# Altium integrated library TI Data Converters Digital to Analog Converter.IntLib: 1533 symbols (part 78 of 99)
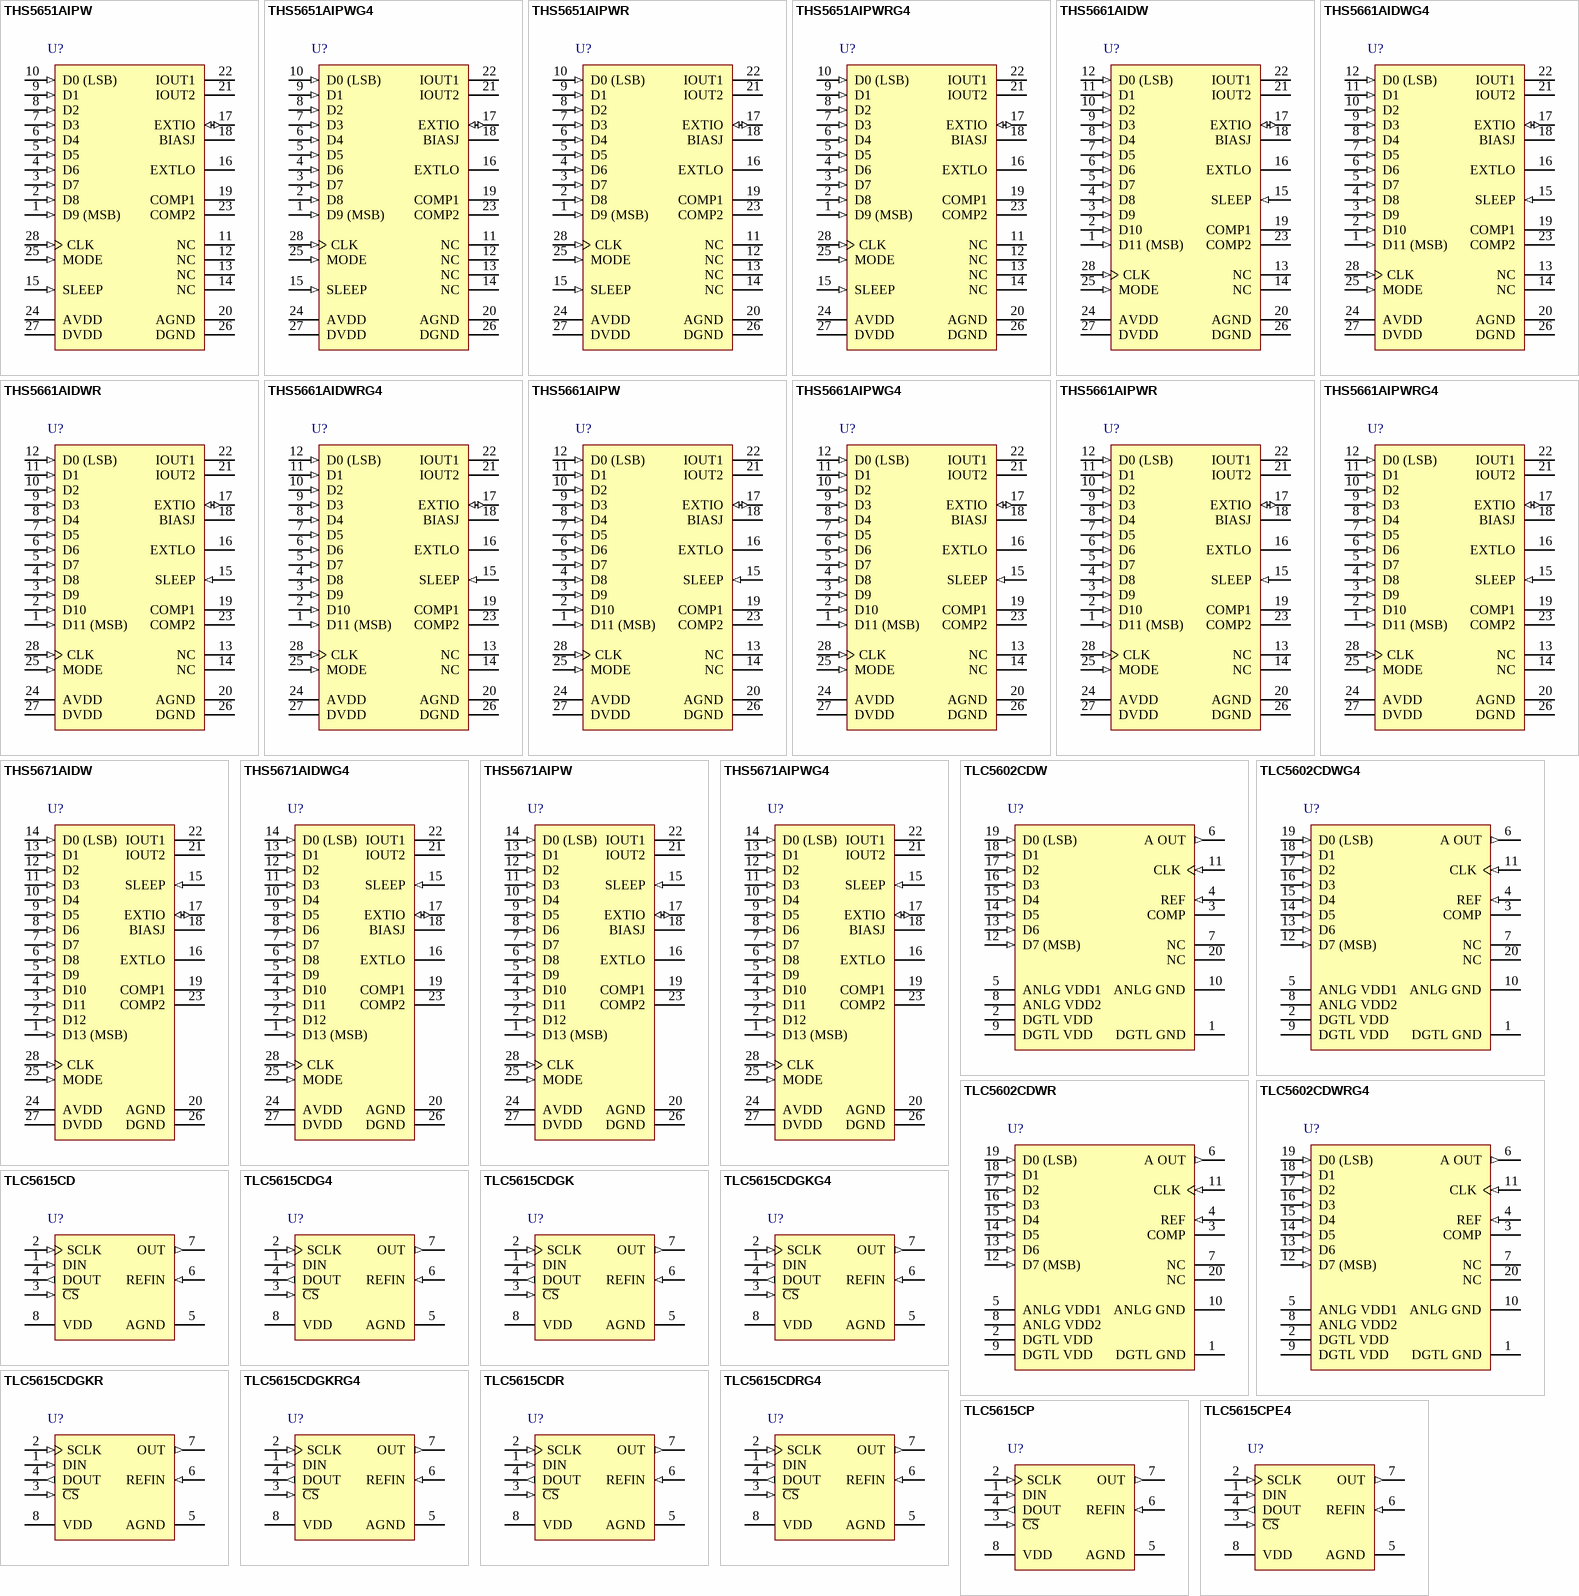
[diagram p150: symbols THS5651AIPW to TLC5615CPE4]

## TLC5615CDR
designator U?
10-Bit, 12.5 us DAC, Serial Input, Low Power, 0 to 70 degC, 8-pin SOIC (D8), Green (RoHS & no Sb/Br); Manufacturer: Texas Instruments; PartNumber: TLC5615CDR; DAC Channels: 1; DNL(Max)(+/-LSB): 0.5; Interface: Serial SPI; Power Consumption(Typ)(mW): 0.75; Resolution(Bits): 10; Settling Time(us): 12.5; SubFamily: Precision DAC (=<10MSPS); DatasheetVersion: SLAS142E; PackageVersion: 4040047-3/M, 06/2011; PackageReference: D8; PackageDescription: 8-Pin Plastic Small Outline, Body 4.9 x 3.9 mm, Pitch 1.27 mm; Supplier 1: Digi-Key; Supplier Part Number 1: TLC5615CDR-ND; Supplier 2: Mouser; Supplier Part Number 2: 595-TLC5615CDR; Eco-Plan: Green (RoHS & no Sb/Br); INL(Max)(+/-LSB): 1; Mounting Technology: Surface Mount; Code_JEDEC: MS-012; ComponentLink1Description: Manufacturer URL; ComponentLink1URL: http://www.ti.com/; ComponentLink2Description: Datasheet; ComponentLink2URL: http://www.ti.com/general/docs/lit/getliterature.tsp?genericPartNumber=TLC5615&fileType=pdf; ComponentLink3Description: Package Specification; ComponentLink3URL: http://www.ti.com/litv/pdf/msoi002j
footprint TI-D8_N (SOIC, 8-Leads, Body 4.9x3.9mm, Pitch 1.27mm, IPC Medium Density)
footprint TI-D8_L (SOIC, 8-Leads, Body 4.9x3.9mm, Pitch 1.27mm, IPC High Density)
footprint TI-D8_M (SOIC, 8-Leads, Body 4.9x3.9mm, Pitch 1.27mm, IPC Low Density)
pins: 1 DIN (in) "Serial data input", 2 SCLK (in) "Serial clock input", 3 ~{CS} (in) "Chip select, active low", 4 DOUT (out) "Serial data output for daisy chaining", 5 AGND (power) "Analog ground", 6 REFIN (in) "Reference input", 7 OUT (out) "DAC analog voltage output", 8 VDD (power) "Positive power supply"

## TLC5615CDRG4
designator U?
10-Bit, 12.5 us DAC, Serial Input, Low Power, 0 to 70 degC, 8-pin SOIC (D8), Green (RoHS & no Sb/Br); Manufacturer: Texas Instruments; PartNumber: TLC5615CDRG4; DAC Channels: 1; DNL(Max)(+/-LSB): 0.5; Interface: Serial SPI; Power Consumption(Typ)(mW): 0.75; Resolution(Bits): 10; Settling Time(us): 12.5; SubFamily: Precision DAC (=<10MSPS); DatasheetVersion: SLAS142E; PackageVersion: 4040047-3/M, 06/2011; PackageReference: D8; PackageDescription: 8-Pin Plastic Small Outline, Body 4.9 x 3.9 mm, Pitch 1.27 mm; Supplier 1: Digi-Key; Supplier Part Number 1: TLC5615CDRG4-ND; Supplier 2: Mouser; Supplier Part Number 2: 595-TLC5615CDRG4; Eco-Plan: Green (RoHS & no Sb/Br); INL(Max)(+/-LSB): 1; Mounting Technology: Surface Mount; Code_JEDEC: MS-012; ComponentLink1Description: Manufacturer URL; ComponentLink1URL: http://www.ti.com/; ComponentLink2Description: Datasheet; ComponentLink2URL: http://www.ti.com/general/docs/lit/getliterature.tsp?genericPartNumber=TLC5615&fileType=pdf; ComponentLink3Description: Package Specification; ComponentLink3URL: http://www.ti.com/litv/pdf/msoi002j
footprint TI-D8_N (SOIC, 8-Leads, Body 4.9x3.9mm, Pitch 1.27mm, IPC Medium Density)
footprint TI-D8_L (SOIC, 8-Leads, Body 4.9x3.9mm, Pitch 1.27mm, IPC High Density)
footprint TI-D8_M (SOIC, 8-Leads, Body 4.9x3.9mm, Pitch 1.27mm, IPC Low Density)
pins: 1 DIN (in) "Serial data input", 2 SCLK (in) "Serial clock input", 3 ~{CS} (in) "Chip select, active low", 4 DOUT (out) "Serial data output for daisy chaining", 5 AGND (power) "Analog ground", 6 REFIN (in) "Reference input", 7 OUT (out) "DAC analog voltage output", 8 VDD (power) "Positive power supply"

## TLC5615CP
designator U?
10-Bit, 12.5 us DAC, Serial Input, Low Power, 0 to 70 degC, 8-pin DIP (P8), Pb-Free (RoHS); Manufacturer: Texas Instruments; PartNumber: TLC5615CP; DAC Channels: 1; DNL(Max)(+/-LSB): 0.5; Interface: Serial SPI; Power Consumption(Typ)(mW): 0.75; Resolution(Bits): 10; Settling Time(us): 12.5; SubFamily: Precision DAC (=<10MSPS); DatasheetVersion: SLAS142E; PackageVersion: 4040082/E, 04/2010; PackageReference: P8; PackageDescription: 8-Pin Plastic In-Line, Body 9.59 x 6.35 mm, Pitch 2.54 mm; Supplier 1: Digi-Key; Supplier Part Number 1: 296-3006-5-ND; Supplier 2: Farnell; Supplier Part Number 2: 8454469; Supplier 3: Newark; Supplier Part Number 3: 35K1220; Supplier 4: Mouser; Supplier Part Number 4: 595-TLC5615CP; Eco-Plan: Pb-Free (RoHS); INL(Max)(+/-LSB): 1; Mounting Technology: Through Hole; Code_JEDEC: MS-001; ComponentLink1Description: Manufacturer URL; ComponentLink1URL: http://www.ti.com/; ComponentLink2Description: Datasheet; ComponentLink2URL: http://www.ti.com/general/docs/lit/getliterature.tsp?genericPartNumber=TLC5615&fileType=pdf; ComponentLink3Description: Package Specification; ComponentLink3URL: http://www.ti.com/litv/pdf/mpdi001b
footprint TI-P8 (DIP, 8-Leads, Body 9.59x6.35mm, Pitch 2.54mm)
pins: 1 DIN (in) "Serial data input", 2 SCLK (in) "Serial clock input", 3 ~{CS} (in) "Chip select, active low", 4 DOUT (out) "Serial data output for daisy chaining", 5 AGND (power) "Analog ground", 6 REFIN (in) "Reference input", 7 OUT (out) "DAC analog voltage output", 8 VDD (power) "Positive power supply"

## TLC5615CPE4
designator U?
10-Bit, 12.5 us DAC, Serial Input, Low Power, 0 to 70 degC, 8-pin DIP (P8), Pb-Free (RoHS); Manufacturer: Texas Instruments; PartNumber: TLC5615CPE4; DAC Channels: 1; DNL(Max)(+/-LSB): 0.5; Interface: Serial SPI; Power Consumption(Typ)(mW): 0.75; Resolution(Bits): 10; Settling Time(us): 12.5; SubFamily: Precision DAC (=<10MSPS); DatasheetVersion: SLAS142E; PackageVersion: 4040082/E, 04/2010; PackageReference: P8; PackageDescription: 8-Pin Plastic In-Line, Body 9.59 x 6.35 mm, Pitch 2.54 mm; Supplier 1: Digi-Key; Supplier Part Number 1: TLC5615CPE4-ND; Supplier 2: Newark; Supplier Part Number 2: 24K5335; Supplier 3: Mouser; Supplier Part Number 3: 595-TLC5615CPE4; Eco-Plan: Pb-Free (RoHS); INL(Max)(+/-LSB): 1; Mounting Technology: Through Hole; Code_JEDEC: MS-001; ComponentLink1Description: Manufacturer URL; ComponentLink1URL: http://www.ti.com/; ComponentLink2Description: Datasheet; ComponentLink2URL: http://www.ti.com/general/docs/lit/getliterature.tsp?genericPartNumber=TLC5615&fileType=pdf; ComponentLink3Description: Package Specification; ComponentLink3URL: http://www.ti.com/litv/pdf/mpdi001b
footprint TI-P8 (DIP, 8-Leads, Body 9.59x6.35mm, Pitch 2.54mm)
pins: 1 DIN (in) "Serial data input", 2 SCLK (in) "Serial clock input", 3 ~{CS} (in) "Chip select, active low", 4 DOUT (out) "Serial data output for daisy chaining", 5 AGND (power) "Analog ground", 6 REFIN (in) "Reference input", 7 OUT (out) "DAC analog voltage output", 8 VDD (power) "Positive power supply"

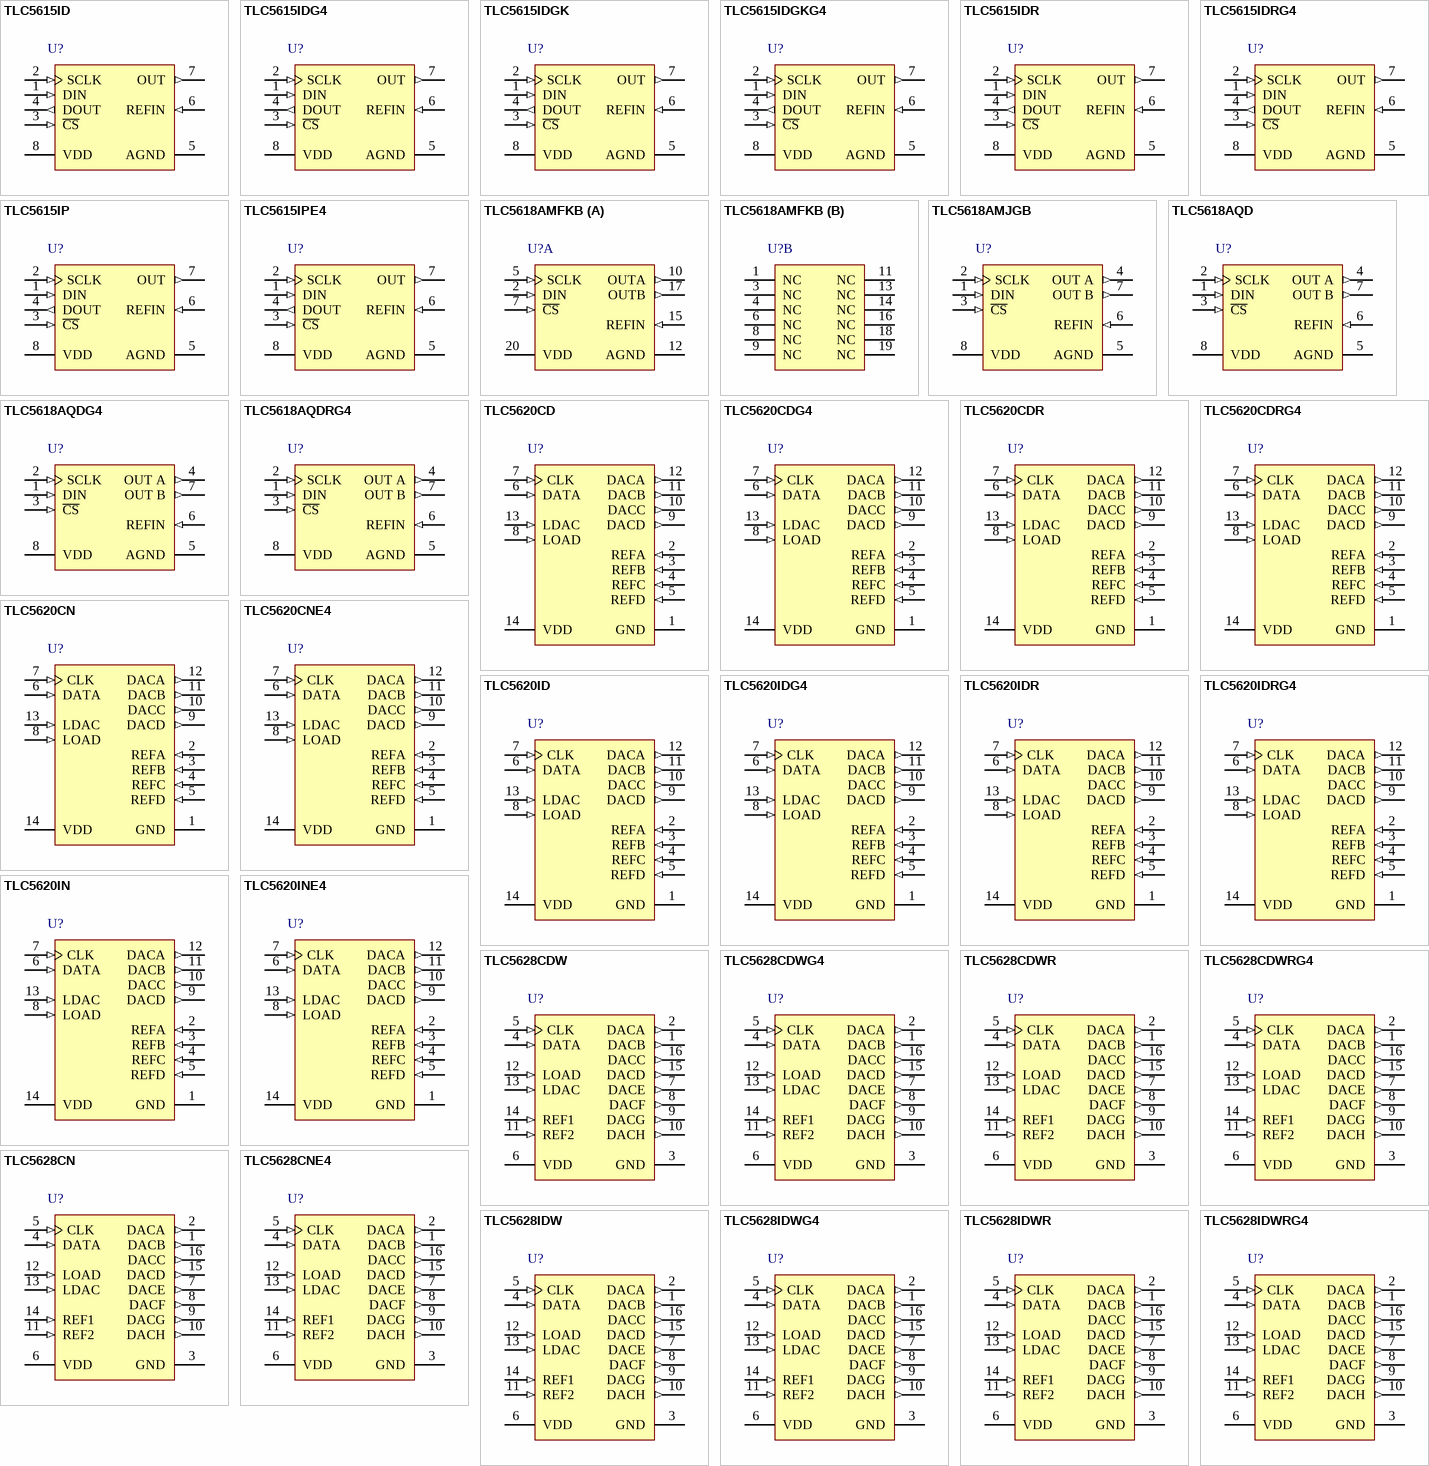
[diagram p58: symbols TLC5615ID to TLC5628IDWRG4]

## TLC5615ID
designator U?
10-Bit, 12.5 us DAC, Serial Input, Low Power, -40 to 85 degC, 8-pin SOIC (D8), Green (RoHS & no Sb/Br); Manufacturer: Texas Instruments; PartNumber: TLC5615ID; DAC Channels: 1; DNL(Max)(+/-LSB): 0.5; Interface: Serial SPI; Power Consumption(Typ)(mW): 0.75; Resolution(Bits): 10; Settling Time(us): 12.5; SubFamily: Precision DAC (=<10MSPS); DatasheetVersion: SLAS142E; PackageVersion: 4040047-3/M, 06/2011; PackageReference: D8; PackageDescription: 8-Pin Plastic Small Outline, Body 4.9 x 3.9 mm, Pitch 1.27 mm; Supplier 1: Digi-Key; Supplier Part Number 1: 296-3007-5-ND; Supplier 2: Newark; Supplier Part Number 2: 76C7465; Supplier 3: Mouser; Supplier Part Number 3: 595-TLC5615ID; Eco-Plan: Green (RoHS & no Sb/Br); INL(Max)(+/-LSB): 1; Mounting Technology: Surface Mount; Code_JEDEC: MS-012; ComponentLink1Description: Manufacturer URL; ComponentLink1URL: http://www.ti.com/; ComponentLink2Description: Datasheet; ComponentLink2URL: http://www.ti.com/general/docs/lit/getliterature.tsp?genericPartNumber=TLC5615&fileType=pdf; ComponentLink3Description: Package Specification; ComponentLink3URL: http://www.ti.com/litv/pdf/msoi002j
footprint TI-D8_N (SOIC, 8-Leads, Body 4.9x3.9mm, Pitch 1.27mm, IPC Medium Density)
footprint TI-D8_L (SOIC, 8-Leads, Body 4.9x3.9mm, Pitch 1.27mm, IPC High Density)
footprint TI-D8_M (SOIC, 8-Leads, Body 4.9x3.9mm, Pitch 1.27mm, IPC Low Density)
pins: 1 DIN (in) "Serial data input", 2 SCLK (in) "Serial clock input", 3 ~{CS} (in) "Chip select, active low", 4 DOUT (out) "Serial data output for daisy chaining", 5 AGND (power) "Analog ground", 6 REFIN (in) "Reference input", 7 OUT (out) "DAC analog voltage output", 8 VDD (power) "Positive power supply"

## TLC5615IDG4
designator U?
10-Bit, 12.5 us DAC, Serial Input, Low Power, -40 to 85 degC, 8-pin SOIC (D8), Green (RoHS & no Sb/Br); Manufacturer: Texas Instruments; PartNumber: TLC5615IDG4; DAC Channels: 1; DNL(Max)(+/-LSB): 0.5; Interface: Serial SPI; Power Consumption(Typ)(mW): 0.75; Resolution(Bits): 10; Settling Time(us): 12.5; SubFamily: Precision DAC (=<10MSPS); DatasheetVersion: SLAS142E; PackageVersion: 4040047-3/M, 06/2011; PackageReference: D8; PackageDescription: 8-Pin Plastic Small Outline, Body 4.9 x 3.9 mm, Pitch 1.27 mm; Supplier 1: Digi-Key; Supplier Part Number 1: TLC5615IDG4-ND; Supplier 2: Mouser; Supplier Part Number 2: 595-TLC5615IDG4; Eco-Plan: Green (RoHS & no Sb/Br); INL(Max)(+/-LSB): 1; Mounting Technology: Surface Mount; Code_JEDEC: MS-012; ComponentLink1Description: Manufacturer URL; ComponentLink1URL: http://www.ti.com/; ComponentLink2Description: Datasheet; ComponentLink2URL: http://www.ti.com/general/docs/lit/getliterature.tsp?genericPartNumber=TLC5615&fileType=pdf; ComponentLink3Description: Package Specification; ComponentLink3URL: http://www.ti.com/litv/pdf/msoi002j
footprint TI-D8_N (SOIC, 8-Leads, Body 4.9x3.9mm, Pitch 1.27mm, IPC Medium Density)
footprint TI-D8_L (SOIC, 8-Leads, Body 4.9x3.9mm, Pitch 1.27mm, IPC High Density)
footprint TI-D8_M (SOIC, 8-Leads, Body 4.9x3.9mm, Pitch 1.27mm, IPC Low Density)
pins: 1 DIN (in) "Serial data input", 2 SCLK (in) "Serial clock input", 3 ~{CS} (in) "Chip select, active low", 4 DOUT (out) "Serial data output for daisy chaining", 5 AGND (power) "Analog ground", 6 REFIN (in) "Reference input", 7 OUT (out) "DAC analog voltage output", 8 VDD (power) "Positive power supply"

## TLC5615IDGK
designator U?
10-Bit, 12.5 us DAC, Serial Input, Low Power, -40 to 85 degC, 8-pin SOP (DGK8), Green (RoHS & no Sb/Br); Manufacturer: Texas Instruments; PartNumber: TLC5615IDGK; DAC Channels: 1; DNL(Max)(+/-LSB): 0.5; Interface: Serial SPI; Power Consumption(Typ)(mW): 0.75; Resolution(Bits): 10; Settling Time(us): 12.5; SubFamily: Precision DAC (=<10MSPS); DatasheetVersion: SLAS142E; PackageVersion: 4073329/E, 05/2006; PackageReference: DGK8; PackageDescription: 8-Pin Thin Small Outline, Body 3 x 3 mm, Pitch 0.65 mm; Supplier 1: Digi-Key; Supplier Part Number 1: 296-34368-5-ND; Supplier 2: Newark; Supplier Part Number 2: 76C7466; Supplier 3: Mouser; Supplier Part Number 3: 595-TLC5615IDGK; Eco-Plan: Green (RoHS & no Sb/Br); INL(Max)(+/-LSB): 1; Mounting Technology: Surface Mount; Code_JEDEC: MO-187; ComponentLink1Description: Manufacturer URL; ComponentLink1URL: http://www.ti.com/; ComponentLink2Description: Datasheet; ComponentLink2URL: http://www.ti.com/general/docs/lit/getliterature.tsp?genericPartNumber=TLC5615&fileType=pdf; ComponentLink3Description: Package Specification; ComponentLink3URL: http://www.ti.com/litv/pdf/mpds028d
footprint TI-DGK8_N (SOP, 8-Leads, Body 3x3mm, Pitch 0.65mm, IPC Medium Density)
footprint TI-DGK8_L (SOP, 8-Leads, Body 3x3mm, Pitch 0.65mm, IPC High Density)
footprint TI-DGK8_M (SOP, 8-Leads, Body 3x3mm, Pitch 0.65mm, IPC Low Density)
pins: 1 DIN (in) "Serial data input", 2 SCLK (in) "Serial clock input", 3 ~{CS} (in) "Chip select, active low", 4 DOUT (out) "Serial data output for daisy chaining", 5 AGND (power) "Analog ground", 6 REFIN (in) "Reference input", 7 OUT (out) "DAC analog voltage output", 8 VDD (power) "Positive power supply"

## TLC5615IDGKG4
designator U?
10-Bit, 12.5 us DAC, Serial Input, Low Power, -40 to 85 degC, 8-pin SOP (DGK8), Green (RoHS & no Sb/Br); Manufacturer: Texas Instruments; PartNumber: TLC5615IDGKG4; DAC Channels: 1; DNL(Max)(+/-LSB): 0.5; Interface: Serial SPI; Power Consumption(Typ)(mW): 0.75; Resolution(Bits): 10; Settling Time(us): 12.5; SubFamily: Precision DAC (=<10MSPS); DatasheetVersion: SLAS142E; PackageVersion: 4073329/E, 05/2006; PackageReference: DGK8; PackageDescription: 8-Pin Thin Small Outline, Body 3 x 3 mm, Pitch 0.65 mm; Supplier 1: Digi-Key; Supplier Part Number 1: TLC5615IDGKG4-ND; Supplier 2: Mouser; Supplier Part Number 2: 595-TLC5615IDGKG4; Eco-Plan: Green (RoHS & no Sb/Br); INL(Max)(+/-LSB): 1; Mounting Technology: Surface Mount; Code_JEDEC: MO-187; ComponentLink1Description: Manufacturer URL; ComponentLink1URL: http://www.ti.com/; ComponentLink2Description: Datasheet; ComponentLink2URL: http://www.ti.com/general/docs/lit/getliterature.tsp?genericPartNumber=TLC5615&fileType=pdf; ComponentLink3Description: Package Specification; ComponentLink3URL: http://www.ti.com/litv/pdf/mpds028d
footprint TI-DGK8_N (SOP, 8-Leads, Body 3x3mm, Pitch 0.65mm, IPC Medium Density)
footprint TI-DGK8_L (SOP, 8-Leads, Body 3x3mm, Pitch 0.65mm, IPC High Density)
footprint TI-DGK8_M (SOP, 8-Leads, Body 3x3mm, Pitch 0.65mm, IPC Low Density)
pins: 1 DIN (in) "Serial data input", 2 SCLK (in) "Serial clock input", 3 ~{CS} (in) "Chip select, active low", 4 DOUT (out) "Serial data output for daisy chaining", 5 AGND (power) "Analog ground", 6 REFIN (in) "Reference input", 7 OUT (out) "DAC analog voltage output", 8 VDD (power) "Positive power supply"

## TLC5615IDR
designator U?
10-Bit, 12.5 us DAC, Serial Input, Low Power, -40 to 85 degC, 8-pin SOIC (D8), Green (RoHS & no Sb/Br); Manufacturer: Texas Instruments; PartNumber: TLC5615IDR; DAC Channels: 1; DNL(Max)(+/-LSB): 0.5; Interface: Serial SPI; Power Consumption(Typ)(mW): 0.75; Resolution(Bits): 10; Settling Time(us): 12.5; SubFamily: Precision DAC (=<10MSPS); DatasheetVersion: SLAS142E; PackageVersion: 4040047-3/M, 06/2011; PackageReference: D8; PackageDescription: 8-Pin Plastic Small Outline, Body 4.9 x 3.9 mm, Pitch 1.27 mm; Supplier 1: Digi-Key; Supplier Part Number 1: TLC5615IDR-ND; Supplier 2: Newark; Supplier Part Number 2: 76C7468; Supplier 3: Mouser; Supplier Part Number 3: 595-TLC5615IDR; Eco-Plan: Green (RoHS & no Sb/Br); INL(Max)(+/-LSB): 1; Mounting Technology: Surface Mount; Code_JEDEC: MS-012; ComponentLink1Description: Manufacturer URL; ComponentLink1URL: http://www.ti.com/; ComponentLink2Description: Datasheet; ComponentLink2URL: http://www.ti.com/general/docs/lit/getliterature.tsp?genericPartNumber=TLC5615&fileType=pdf; ComponentLink3Description: Package Specification; ComponentLink3URL: http://www.ti.com/litv/pdf/msoi002j
footprint TI-D8_N (SOIC, 8-Leads, Body 4.9x3.9mm, Pitch 1.27mm, IPC Medium Density)
footprint TI-D8_L (SOIC, 8-Leads, Body 4.9x3.9mm, Pitch 1.27mm, IPC High Density)
footprint TI-D8_M (SOIC, 8-Leads, Body 4.9x3.9mm, Pitch 1.27mm, IPC Low Density)
pins: 1 DIN (in) "Serial data input", 2 SCLK (in) "Serial clock input", 3 ~{CS} (in) "Chip select, active low", 4 DOUT (out) "Serial data output for daisy chaining", 5 AGND (power) "Analog ground", 6 REFIN (in) "Reference input", 7 OUT (out) "DAC analog voltage output", 8 VDD (power) "Positive power supply"

## TLC5615IDRG4
designator U?
10-Bit, 12.5 us DAC, Serial Input, Low Power, -40 to 85 degC, 8-pin SOIC (D8), Green (RoHS & no Sb/Br); Manufacturer: Texas Instruments; PartNumber: TLC5615IDRG4; DAC Channels: 1; DNL(Max)(+/-LSB): 0.5; Interface: Serial SPI; Power Consumption(Typ)(mW): 0.75; Resolution(Bits): 10; Settling Time(us): 12.5; SubFamily: Precision DAC (=<10MSPS); DatasheetVersion: SLAS142E; PackageVersion: 4040047-3/M, 06/2011; PackageReference: D8; PackageDescription: 8-Pin Plastic Small Outline, Body 4.9 x 3.9 mm, Pitch 1.27 mm; Supplier 1: Digi-Key; Supplier Part Number 1: TLC5615IDRG4-ND; Supplier 2: Mouser; Supplier Part Number 2: 595-TLC5615IDRG4; Eco-Plan: Green (RoHS & no Sb/Br); INL(Max)(+/-LSB): 1; Mounting Technology: Surface Mount; Code_JEDEC: MS-012; ComponentLink1Description: Manufacturer URL; ComponentLink1URL: http://www.ti.com/; ComponentLink2Description: Datasheet; ComponentLink2URL: http://www.ti.com/general/docs/lit/getliterature.tsp?genericPartNumber=TLC5615&fileType=pdf; ComponentLink3Description: Package Specification; ComponentLink3URL: http://www.ti.com/litv/pdf/msoi002j
footprint TI-D8_N (SOIC, 8-Leads, Body 4.9x3.9mm, Pitch 1.27mm, IPC Medium Density)
footprint TI-D8_L (SOIC, 8-Leads, Body 4.9x3.9mm, Pitch 1.27mm, IPC High Density)
footprint TI-D8_M (SOIC, 8-Leads, Body 4.9x3.9mm, Pitch 1.27mm, IPC Low Density)
pins: 1 DIN (in) "Serial data input", 2 SCLK (in) "Serial clock input", 3 ~{CS} (in) "Chip select, active low", 4 DOUT (out) "Serial data output for daisy chaining", 5 AGND (power) "Analog ground", 6 REFIN (in) "Reference input", 7 OUT (out) "DAC analog voltage output", 8 VDD (power) "Positive power supply"

## TLC5615IP
designator U?
10-Bit, 12.5 us DAC, Serial Input, Low Power, -40 to 85 degC, 8-pin DIP (P8), Pb-Free (RoHS); Manufacturer: Texas Instruments; PartNumber: TLC5615IP; DAC Channels: 1; DNL(Max)(+/-LSB): 0.5; Interface: Serial SPI; Power Consumption(Typ)(mW): 0.75; Resolution(Bits): 10; Settling Time(us): 12.5; SubFamily: Precision DAC (=<10MSPS); DatasheetVersion: SLAS142E; PackageVersion: 4040082/E, 04/2010; PackageReference: P8; PackageDescription: 8-Pin Plastic In-Line, Body 9.59 x 6.35 mm, Pitch 2.54 mm; Supplier 1: Digi-Key; Supplier Part Number 1: 296-2292-5-ND; Supplier 2: Newark; Supplier Part Number 2: 35K1221; Supplier 3: Mouser; Supplier Part Number 3: 595-TLC5615IP; Eco-Plan: Pb-Free (RoHS); INL(Max)(+/-LSB): 1; Mounting Technology: Through Hole; Code_JEDEC: MS-001; ComponentLink1Description: Manufacturer URL; ComponentLink1URL: http://www.ti.com/; ComponentLink2Description: Datasheet; ComponentLink2URL: http://www.ti.com/general/docs/lit/getliterature.tsp?genericPartNumber=TLC5615&fileType=pdf; ComponentLink3Description: Package Specification; ComponentLink3URL: http://www.ti.com/litv/pdf/mpdi001b
footprint TI-P8 (DIP, 8-Leads, Body 9.59x6.35mm, Pitch 2.54mm)
pins: 1 DIN (in) "Serial data input", 2 SCLK (in) "Serial clock input", 3 ~{CS} (in) "Chip select, active low", 4 DOUT (out) "Serial data output for daisy chaining", 5 AGND (power) "Analog ground", 6 REFIN (in) "Reference input", 7 OUT (out) "DAC analog voltage output", 8 VDD (power) "Positive power supply"

## TLC5615IPE4
designator U?
10-Bit, 12.5 us DAC, Serial Input, Low Power, -40 to 85 degC, 8-pin DIP (P8), Pb-Free (RoHS); Manufacturer: Texas Instruments; PartNumber: TLC5615IPE4; DAC Channels: 1; DNL(Max)(+/-LSB): 0.5; Interface: Serial SPI; Power Consumption(Typ)(mW): 0.75; Resolution(Bits): 10; Settling Time(us): 12.5; SubFamily: Precision DAC (=<10MSPS); DatasheetVersion: SLAS142E; PackageVersion: 4040082/E, 04/2010; PackageReference: P8; PackageDescription: 8-Pin Plastic In-Line, Body 9.59 x 6.35 mm, Pitch 2.54 mm; Supplier 1: Digi-Key; Supplier Part Number 1: TLC5615IPE4-ND; Supplier 2: Newark; Supplier Part Number 2: 24K5338; Supplier 3: Mouser; Supplier Part Number 3: 595-TLC5615IPE4; Eco-Plan: Pb-Free (RoHS); INL(Max)(+/-LSB): 1; Mounting Technology: Through Hole; Code_JEDEC: MS-001; ComponentLink1Description: Manufacturer URL; ComponentLink1URL: http://www.ti.com/; ComponentLink2Description: Datasheet; ComponentLink2URL: http://www.ti.com/general/docs/lit/getliterature.tsp?genericPartNumber=TLC5615&fileType=pdf; ComponentLink3Description: Package Specification; ComponentLink3URL: http://www.ti.com/litv/pdf/mpdi001b
footprint TI-P8 (DIP, 8-Leads, Body 9.59x6.35mm, Pitch 2.54mm)
pins: 1 DIN (in) "Serial data input", 2 SCLK (in) "Serial clock input", 3 ~{CS} (in) "Chip select, active low", 4 DOUT (out) "Serial data output for daisy chaining", 5 AGND (power) "Analog ground", 6 REFIN (in) "Reference input", 7 OUT (out) "DAC analog voltage output", 8 VDD (power) "Positive power supply"

## TLC5618AMFKB
designator U?
12-Bit, 2.5 us Dual DAC, Serial Input, Programmable Settling Time, Simultaneous Update, Low Power, -55 to 125 degC, 20-pin LCC (FK20); Manufacturer: Texas Instruments; PartNumber: TLC5618AMFKB; DAC Channels: 2; DNL(Max)(+/-LSB): 1; INL(Max)(+/-LSB): 4; Interface: Serial SPI; Power Consumption(Typ)(mW): 3; Resolution(Bits): 12; Settling Time(us): 2.5; SubFamily: Precision DAC (=<10MSPS); DatasheetVersion: SLAS156G; PackageVersion: 4040140/D, 01/2011; PackageReference: FK20; PackageDescription: 20-Pin Ceramic, Metal Chip Carrier, Body 8.89 x 8.89 mm, Pitch 1.27 mm; Mounting Technology: Surface Mount; Code_JEDEC: MS-004; ComponentLink1Description: Manufacturer URL; ComponentLink1URL: http://www.ti.com/; ComponentLink2Description: Datasheet; ComponentLink2URL: http://www.ti.com/general/docs/lit/getliterature.tsp?genericPartNumber=TLC5618AM&fileType=pdf; ComponentLink3Description: Package Specification; ComponentLink3URL: http://www.ti.com/litv/pdf/mlcc006d
footprint TI-FK20_N (Leadless Chip Carrier, 20-Leads, Body 8.9x8.9mm, Pitch 1.27mm, IPC Medium Density)
footprint TI-FK20_L (Leadless Chip Carrier, 20-Leads, Body 8.9x8.9mm, Pitch 1.27mm, IPC High Density)
footprint TI-FK20_M (Leadless Chip Carrier, 20-Leads, Body 8.9x8.9mm, Pitch 1.27mm, IPC Low Density)
part A pins: 2 DIN (in) "Serial data input", 5 SCLK (in) "Serial clock input", 7 ~{CS} (in) "Chip select, active low", 10 OUTA (out) "DAC A analog output", 12 AGND (power) "Analog ground", 15 REFIN (in) "Reference voltage input", 17 OUTB (out) "DAC B analog output", 20 VDD (power) "Positive power supply"
part B pins: 1 NC, 3 NC, 4 NC, 6 NC, 8 NC, 9 NC, 11 NC, 13 NC, 14 NC, 16 NC, 18 NC, 19 NC

## TLC5618AMJGB
designator U?
12-Bit, 2.5 us Dual DAC, Serial Input, Programmable Settling Time, Simultaneous Update, Low Power, -55 to 125 degC, 8-pin DIP (JG8); Manufacturer: Texas Instruments; PartNumber: TLC5618AMJGB; DAC Channels: 2; DNL(Max)(+/-LSB): 1; INL(Max)(+/-LSB): 4; Interface: Serial SPI; Power Consumption(Typ)(mW): 3; Resolution(Bits): 12; Settling Time(us): 2.5; SubFamily: Precision DAC (=<10MSPS); DatasheetVersion: SLAS156G; PackageVersion: 4040107/C, 08/1996; PackageReference: JG8; PackageDescription: 8-Pin Ceramic, Glass In-Line, Body 9.58 x 6.665 mm, Pitch 2.54 mm; Mounting Technology: Through Hole; ComponentLink1Description: Manufacturer URL; ComponentLink1URL: http://www.ti.com/; ComponentLink2Description: Datasheet; ComponentLink2URL: http://www.ti.com/general/docs/lit/getliterature.tsp?genericPartNumber=TLC5618AM&fileType=pdf; ComponentLink3Description: Package Specification; ComponentLink3URL: http://www.ti.com/litv/pdf/mcer001a
footprint TI-JG8 (DIP, 8-Leads, Body 10.15x7.1mm, Pitch 2.54mm)
pins: 1 DIN (in) "Serial data input", 2 SCLK (in) "Serial clock input", 3 ~{CS} (in) "Chip select, active low", 4 OUT A (out) "DAC A analog output", 5 AGND (power) "Analog ground", 6 REFIN (in) "Reference voltage input", 7 OUT B (out) "DAC B analog output", 8 VDD (power) "Positive power supply"

## TLC5618AQD
designator U?
12-Bit, 2.5 us Dual DAC, Serial Input, Programmable Settling Time, Simultaneous Update, Low Power, -40 to 125 degC, 8-pin SOIC (D8), Green (RoHS & no Sb/Br); Manufacturer: Texas Instruments; PartNumber: TLC5618AQD; DAC Channels: 2; DNL(Max)(+/-LSB): 1; INL(Max)(+/-LSB): 4; Interface: Serial SPI; Power Consumption(Typ)(mW): 3; Resolution(Bits): 12; Settling Time(us): 2.5; SubFamily: Precision DAC (=<10MSPS); DatasheetVersion: SLAS156G; PackageVersion: 4040047-3/M, 06/2011; PackageReference: D8; PackageDescription: 8-Pin Plastic Small Outline, Body 4.9 x 3.9 mm, Pitch 1.27 mm; Supplier 1: Digi-Key; Supplier Part Number 1: 296-3011-5-ND; Supplier 2: Newark; Supplier Part Number 2: 05W5172; Supplier 3: Mouser; Supplier Part Number 3: 595-TLC5618AQD; Eco-Plan: Green (RoHS & no Sb/Br); Mounting Technology: Surface Mount; Code_JEDEC: MS-012; ComponentLink1Description: Manufacturer URL; ComponentLink1URL: http://www.ti.com/; ComponentLink2Description: Datasheet; ComponentLink2URL: http://www.ti.com/general/docs/lit/getliterature.tsp?genericPartNumber=TLC5618A&fileType=pdf; ComponentLink3Description: Package Specification; ComponentLink3URL: http://www.ti.com/litv/pdf/msoi002j
footprint TI-D8_N (SOIC, 8-Leads, Body 4.9x3.9mm, Pitch 1.27mm, IPC Medium Density)
footprint TI-D8_L (SOIC, 8-Leads, Body 4.9x3.9mm, Pitch 1.27mm, IPC High Density)
footprint TI-D8_M (SOIC, 8-Leads, Body 4.9x3.9mm, Pitch 1.27mm, IPC Low Density)
pins: 1 DIN (in) "Serial data input", 2 SCLK (in) "Serial clock input", 3 ~{CS} (in) "Chip select, active low", 4 OUT A (out) "DAC A analog output", 5 AGND (power) "Analog ground", 6 REFIN (in) "Reference voltage input", 7 OUT B (out) "DAC B analog output", 8 VDD (power) "Positive power supply"

## TLC5618AQDG4
designator U?
12-Bit, 2.5 us Dual DAC, Serial Input, Programmable Settling Time, Simultaneous Update, Low Power, -40 to 125 degC, 8-pin SOIC (D8), Green (RoHS & no Sb/Br); Manufacturer: Texas Instruments; PartNumber: TLC5618AQDG4; DAC Channels: 2; DNL(Max)(+/-LSB): 1; INL(Max)(+/-LSB): 4; Interface: Serial SPI; Power Consumption(Typ)(mW): 3; Resolution(Bits): 12; Settling Time(us): 2.5; SubFamily: Precision DAC (=<10MSPS); DatasheetVersion: SLAS156G; PackageVersion: 4040047-3/M, 06/2011; PackageReference: D8; PackageDescription: 8-Pin Plastic Small Outline, Body 4.9 x 3.9 mm, Pitch 1.27 mm; Supplier 1: Digi-Key; Supplier Part Number 1: TLC5618AQDG4-ND; Supplier 2: Newark; Supplier Part Number 2: 54M7315; Supplier 3: Mouser; Supplier Part Number 3: 595-TLC5618AQDG4; Eco-Plan: Green (RoHS & no Sb/Br); Mounting Technology: Surface Mount; Code_JEDEC: MS-012; ComponentLink1Description: Manufacturer URL; ComponentLink1URL: http://www.ti.com/; ComponentLink2Description: Datasheet; ComponentLink2URL: http://www.ti.com/general/docs/lit/getliterature.tsp?genericPartNumber=TLC5618A&fileType=pdf; ComponentLink3Description: Package Specification; ComponentLink3URL: http://www.ti.com/litv/pdf/msoi002j
footprint TI-D8_N (SOIC, 8-Leads, Body 4.9x3.9mm, Pitch 1.27mm, IPC Medium Density)
footprint TI-D8_L (SOIC, 8-Leads, Body 4.9x3.9mm, Pitch 1.27mm, IPC High Density)
footprint TI-D8_M (SOIC, 8-Leads, Body 4.9x3.9mm, Pitch 1.27mm, IPC Low Density)
pins: 1 DIN (in) "Serial data input", 2 SCLK (in) "Serial clock input", 3 ~{CS} (in) "Chip select, active low", 4 OUT A (out) "DAC A analog output", 5 AGND (power) "Analog ground", 6 REFIN (in) "Reference voltage input", 7 OUT B (out) "DAC B analog output", 8 VDD (power) "Positive power supply"

## TLC5618AQDRG4
designator U?
12-Bit, 2.5 us Dual DAC, Serial Input, Programmable Settling Time, Simultaneous Update, Low Power, -40 to 125 degC, 8-pin SOIC (D8), Green (RoHS & no Sb/Br); Manufacturer: Texas Instruments; PartNumber: TLC5618AQDRG4; DAC Channels: 2; DNL(Max)(+/-LSB): 1; INL(Max)(+/-LSB): 4; Interface: Serial SPI; Power Consumption(Typ)(mW): 3; Resolution(Bits): 12; Settling Time(us): 2.5; SubFamily: Precision DAC (=<10MSPS); DatasheetVersion: SLAS156G; PackageVersion: 4040047-3/M, 06/2011; PackageReference: D8; PackageDescription: 8-Pin Plastic Small Outline, Body 4.9 x 3.9 mm, Pitch 1.27 mm; Supplier 1: Digi-Key; Supplier Part Number 1: TLC5618AQDRG4-ND; Supplier 2: Newark; Supplier Part Number 2: 54M7316; Supplier 3: Mouser; Supplier Part Number 3: 595-TLC5618AQDRG4; Eco-Plan: Green (RoHS & no Sb/Br); Mounting Technology: Surface Mount; Code_JEDEC: MS-012; ComponentLink1Description: Manufacturer URL; ComponentLink1URL: http://www.ti.com/; ComponentLink2Description: Datasheet; ComponentLink2URL: http://www.ti.com/general/docs/lit/getliterature.tsp?genericPartNumber=TLC5618A&fileType=pdf; ComponentLink3Description: Package Specification; ComponentLink3URL: http://www.ti.com/litv/pdf/msoi002j
footprint TI-D8_N (SOIC, 8-Leads, Body 4.9x3.9mm, Pitch 1.27mm, IPC Medium Density)
footprint TI-D8_L (SOIC, 8-Leads, Body 4.9x3.9mm, Pitch 1.27mm, IPC High Density)
footprint TI-D8_M (SOIC, 8-Leads, Body 4.9x3.9mm, Pitch 1.27mm, IPC Low Density)
pins: 1 DIN (in) "Serial data input", 2 SCLK (in) "Serial clock input", 3 ~{CS} (in) "Chip select, active low", 4 OUT A (out) "DAC A analog output", 5 AGND (power) "Analog ground", 6 REFIN (in) "Reference voltage input", 7 OUT B (out) "DAC B analog output", 8 VDD (power) "Positive power supply"

## TLC5620CD
designator U?
8-Bit, 10 us Quad DAC, Serial Input, Programmable for 1 x or 2 x Output, Simultaneous Update, Low Power, 0 to 70 degC, 14-pin SOIC (D14), Green (RoHS & no Sb/Br); Manufacturer: Texas Instruments; PartNumber: TLC5620CD; DAC Channels: 4; DNL(Max)(+/-LSB): 0.9; INL(Max)(+/-LSB): 1; Interface: Serial SPI; Power Consumption(Typ)(mW): 8; Settling Time(us): 10; SubFamily: Precision DAC (=<10MSPS); DatasheetVersion: SLAS081E; PackageVersion: 4040047-5/M, 06/2011; PackageReference: D14; PackageDescription: 14-Pin Plastic Small Outline, Body 8.65 x 3.9 mm, Pitch 1.27 mm; Supplier 1: Digi-Key; Supplier Part Number 1: 296-1861-5-ND; Supplier 2: Farnell; Supplier Part Number 2: 8454485; Supplier 3: Newark; Supplier Part Number 3: 68K1129; Supplier 4: Mouser; Supplier Part Number 4: 595-TLC5620CD; Eco-Plan: Green (RoHS & no Sb/Br); Resolution(Bits): 8; Mounting Technology: Surface Mount; Code_JEDEC: MS-012; ComponentLink1Description: Manufacturer URL; ComponentLink1URL: http://www.ti.com/; ComponentLink2Description: Datasheet; ComponentLink2URL: http://www.ti.com/general/docs/lit/getliterature.tsp?genericPartNumber=TLC5620&fileType=pdf; ComponentLink3Description: Package Specification; ComponentLink3URL: http://www.ti.com/lit/ml/mpds177g/mpds177g.pdf
footprint TI-D14_N (SOIC, 14-Leads, Body 8.65x3.9mm, Pitch 1.27mm, IPC Medium Density)
footprint TI-D14_L (SOIC, 14-Leads, Body 8.65x3.9mm, Pitch 1.27mm, IPC High Density)
footprint TI-D14_M (SOIC, 14-Leads, Body 8.65x3.9mm, Pitch 1.27mm, IPC Low Density)
pins: 1 GND (power) "Ground return and reference", 2 REFA (in) "Reference voltage input to DAC A. This voltage defines the output analog range.", 3 REFB (in) "Reference voltage input to DAC B. This voltage defines the output analog range.", 4 REFC (in) "Reference voltage input to DAC C. This voltage defines the output analog range.", 5 REFD (in) "Reference voltage input to DAC D. This voltage defines the output analog range.", 6 DATA (in) "Serial interface digital data input. The digital code for the DAC is clocked into the serial interface register serially. Each data bit is clocked into the register on the falling edge of the clock signal.", 7 CLK (in) "Serial interface clock. The input digital data is shifted into the serial interface register on the falling edge of the clock applied to the CLK terminal.", 8 LOAD (in) "Serial interface load control. When the LDAC terminal is low, the falling edge of the LOAD signal latches the digital data into the output latch and immediately produces the analog voltage at the DAC output terminal.", 9 DACD (out) "DAC D analog output", 10 DACC (out) "DAC C analog output", 11 DACB (out) "DAC B analog output", 12 DACA (out) "DAC A analog output", 13 LDAC (in) "Load DAC. When this signal is high, no DAC output updates occur when the input digital data is read into the serial interface. The DAC outputs are only updated when LDAC is taken from high to low.", 14 VDD (power) "Positive supply voltage"

## TLC5620CDG4
designator U?
8-Bit, 10 us Quad DAC, Serial Input, Programmable for 1 x or 2 x Output, Simultaneous Update, Low Power, 0 to 70 degC, 14-pin SOIC (D14), Green (RoHS & no Sb/Br); Manufacturer: Texas Instruments; PartNumber: TLC5620CDG4; DAC Channels: 4; DNL(Max)(+/-LSB): 0.9; INL(Max)(+/-LSB): 1; Interface: Serial SPI; Power Consumption(Typ)(mW): 8; Settling Time(us): 10; SubFamily: Precision DAC (=<10MSPS); DatasheetVersion: SLAS081E; PackageVersion: 4040047-5/M, 06/2011; PackageReference: D14; PackageDescription: 14-Pin Plastic Small Outline, Body 8.65 x 3.9 mm, Pitch 1.27 mm; Supplier 1: Digi-Key; Supplier Part Number 1: TLC5620CDG4-ND; Supplier 2: Mouser; Supplier Part Number 2: 595-TLC5620CDG4; Eco-Plan: Green (RoHS & no Sb/Br); Resolution(Bits): 8; Mounting Technology: Surface Mount; Code_JEDEC: MS-012; ComponentLink1Description: Manufacturer URL; ComponentLink1URL: http://www.ti.com/; ComponentLink2Description: Datasheet; ComponentLink2URL: http://www.ti.com/general/docs/lit/getliterature.tsp?genericPartNumber=TLC5620&fileType=pdf; ComponentLink3Description: Package Specification; ComponentLink3URL: http://www.ti.com/lit/ml/mpds177g/mpds177g.pdf
footprint TI-D14_N (SOIC, 14-Leads, Body 8.65x3.9mm, Pitch 1.27mm, IPC Medium Density)
footprint TI-D14_L (SOIC, 14-Leads, Body 8.65x3.9mm, Pitch 1.27mm, IPC High Density)
footprint TI-D14_M (SOIC, 14-Leads, Body 8.65x3.9mm, Pitch 1.27mm, IPC Low Density)
pins: 1 GND (power) "Ground return and reference", 2 REFA (in) "Reference voltage input to DAC A. This voltage defines the output analog range.", 3 REFB (in) "Reference voltage input to DAC B. This voltage defines the output analog range.", 4 REFC (in) "Reference voltage input to DAC C. This voltage defines the output analog range.", 5 REFD (in) "Reference voltage input to DAC D. This voltage defines the output analog range.", 6 DATA (in) "Serial interface digital data input. The digital code for the DAC is clocked into the serial interface register serially. Each data bit is clocked into the register on the falling edge of the clock signal.", 7 CLK (in) "Serial interface clock. The input digital data is shifted into the serial interface register on the falling edge of the clock applied to the CLK terminal.", 8 LOAD (in) "Serial interface load control. When the LDAC terminal is low, the falling edge of the LOAD signal latches the digital data into the output latch and immediately produces the analog voltage at the DAC output terminal.", 9 DACD (out) "DAC D analog output", 10 DACC (out) "DAC C analog output", 11 DACB (out) "DAC B analog output", 12 DACA (out) "DAC A analog output", 13 LDAC (in) "Load DAC. When this signal is high, no DAC output updates occur when the input digital data is read into the serial interface. The DAC outputs are only updated when LDAC is taken from high to low.", 14 VDD (power) "Positive supply voltage"

## TLC5620CDR
designator U?
8-Bit, 10 us Quad DAC, Serial Input, Programmable for 1 x or 2 x Output, Simultaneous Update, Low Power, 0 to 70 degC, 14-pin SOIC (D14), Green (RoHS & no Sb/Br); Manufacturer: Texas Instruments; PartNumber: TLC5620CDR; DAC Channels: 4; DNL(Max)(+/-LSB): 0.9; INL(Max)(+/-LSB): 1; Interface: Serial SPI; Power Consumption(Typ)(mW): 8; Settling Time(us): 10; SubFamily: Precision DAC (=<10MSPS); DatasheetVersion: SLAS081E; PackageVersion: 4040047-5/M, 06/2011; PackageReference: D14; PackageDescription: 14-Pin Plastic Small Outline, Body 8.65 x 3.9 mm, Pitch 1.27 mm; Supplier 1: Digi-Key; Supplier Part Number 1: 296-26759-2-ND; Supplier 2: Digi-Key; Supplier Part Number 2: 296-26759-1-ND; Supplier 3: Digi-Key; Supplier Part Number 3: 296-26759-6-ND; Supplier 4: Newark; Supplier Part Number 4: 76C7471; Supplier 5: Mouser; Supplier Part Number 5: 595-TLC5620CDR; Eco-Plan: Green (RoHS & no Sb/Br); Resolution(Bits): 8; Mounting Technology: Surface Mount; Code_JEDEC: MS-012; ComponentLink1Description: Manufacturer URL; ComponentLink1URL: http://www.ti.com/; ComponentLink2Description: Datasheet; ComponentLink2URL: http://www.ti.com/general/docs/lit/getliterature.tsp?genericPartNumber=TLC5620&fileType=pdf; ComponentLink3Description: Package Specification; ComponentLink3URL: http://www.ti.com/lit/ml/mpds177g/mpds177g.pdf
footprint TI-D14_N (SOIC, 14-Leads, Body 8.65x3.9mm, Pitch 1.27mm, IPC Medium Density)
footprint TI-D14_L (SOIC, 14-Leads, Body 8.65x3.9mm, Pitch 1.27mm, IPC High Density)
footprint TI-D14_M (SOIC, 14-Leads, Body 8.65x3.9mm, Pitch 1.27mm, IPC Low Density)
pins: 1 GND (power) "Ground return and reference", 2 REFA (in) "Reference voltage input to DAC A. This voltage defines the output analog range.", 3 REFB (in) "Reference voltage input to DAC B. This voltage defines the output analog range.", 4 REFC (in) "Reference voltage input to DAC C. This voltage defines the output analog range.", 5 REFD (in) "Reference voltage input to DAC D. This voltage defines the output analog range.", 6 DATA (in) "Serial interface digital data input. The digital code for the DAC is clocked into the serial interface register serially. Each data bit is clocked into the register on the falling edge of the clock signal.", 7 CLK (in) "Serial interface clock. The input digital data is shifted into the serial interface register on the falling edge of the clock applied to the CLK terminal.", 8 LOAD (in) "Serial interface load control. When the LDAC terminal is low, the falling edge of the LOAD signal latches the digital data into the output latch and immediately produces the analog voltage at the DAC output terminal.", 9 DACD (out) "DAC D analog output", 10 DACC (out) "DAC C analog output", 11 DACB (out) "DAC B analog output", 12 DACA (out) "DAC A analog output", 13 LDAC (in) "Load DAC. When this signal is high, no DAC output updates occur when the input digital data is read into the serial interface. The DAC outputs are only updated when LDAC is taken from high to low.", 14 VDD (power) "Positive supply voltage"

## TLC5620CDRG4
designator U?
8-Bit, 10 us Quad DAC, Serial Input, Programmable for 1 x or 2 x Output, Simultaneous Update, Low Power, 0 to 70 degC, 14-pin SOIC (D14), Green (RoHS & no Sb/Br); Manufacturer: Texas Instruments; PartNumber: TLC5620CDRG4; DAC Channels: 4; DNL(Max)(+/-LSB): 0.9; INL(Max)(+/-LSB): 1; Interface: Serial SPI; Power Consumption(Typ)(mW): 8; Settling Time(us): 10; SubFamily: Precision DAC (=<10MSPS); DatasheetVersion: SLAS081E; PackageVersion: 4040047-5/M, 06/2011; PackageReference: D14; PackageDescription: 14-Pin Plastic Small Outline, Body 8.65 x 3.9 mm, Pitch 1.27 mm; Supplier 1: Digi-Key; Supplier Part Number 1: TLC5620CDRG4-ND; Supplier 2: Mouser; Supplier Part Number 2: 595-TLC5620CDRG4; Eco-Plan: Green (RoHS & no Sb/Br); Resolution(Bits): 8; Mounting Technology: Surface Mount; Code_JEDEC: MS-012; ComponentLink1Description: Manufacturer URL; ComponentLink1URL: http://www.ti.com/; ComponentLink2Description: Datasheet; ComponentLink2URL: http://www.ti.com/general/docs/lit/getliterature.tsp?genericPartNumber=TLC5620&fileType=pdf; ComponentLink3Description: Package Specification; ComponentLink3URL: http://www.ti.com/lit/ml/mpds177g/mpds177g.pdf
footprint TI-D14_N (SOIC, 14-Leads, Body 8.65x3.9mm, Pitch 1.27mm, IPC Medium Density)
footprint TI-D14_L (SOIC, 14-Leads, Body 8.65x3.9mm, Pitch 1.27mm, IPC High Density)
footprint TI-D14_M (SOIC, 14-Leads, Body 8.65x3.9mm, Pitch 1.27mm, IPC Low Density)
pins: 1 GND (power) "Ground return and reference", 2 REFA (in) "Reference voltage input to DAC A. This voltage defines the output analog range.", 3 REFB (in) "Reference voltage input to DAC B. This voltage defines the output analog range.", 4 REFC (in) "Reference voltage input to DAC C. This voltage defines the output analog range.", 5 REFD (in) "Reference voltage input to DAC D. This voltage defines the output analog range.", 6 DATA (in) "Serial interface digital data input. The digital code for the DAC is clocked into the serial interface register serially. Each data bit is clocked into the register on the falling edge of the clock signal.", 7 CLK (in) "Serial interface clock. The input digital data is shifted into the serial interface register on the falling edge of the clock applied to the CLK terminal.", 8 LOAD (in) "Serial interface load control. When the LDAC terminal is low, the falling edge of the LOAD signal latches the digital data into the output latch and immediately produces the analog voltage at the DAC output terminal.", 9 DACD (out) "DAC D analog output", 10 DACC (out) "DAC C analog output", 11 DACB (out) "DAC B analog output", 12 DACA (out) "DAC A analog output", 13 LDAC (in) "Load DAC. When this signal is high, no DAC output updates occur when the input digital data is read into the serial interface. The DAC outputs are only updated when LDAC is taken from high to low.", 14 VDD (power) "Positive supply voltage"

## TLC5620CN
designator U?
8-Bit, 10 us Quad DAC, Serial Input, Programmable for 1 x or 2 x Output, Simultaneous Update, Low Power, 0 to 70 degC, 14-pin DIP (N14), Pb-Free (RoHS); Manufacturer: Texas Instruments; PartNumber: TLC5620CN; DAC Channels: 4; DNL(Max)(+/-LSB): 0.9; INL(Max)(+/-LSB): 1; Interface: Serial SPI; Power Consumption(Typ)(mW): 8; Settling Time(us): 10; SubFamily: Precision DAC (=<10MSPS); DatasheetVersion: SLAS081E; PackageVersion: 4040049/E, 12/2002; PackageReference: N14; PackageDescription: 14-Pin Plastic In-Line, Body 19.305 x 6.35 mm, Pitch 2.54 mm; Supplier 1: Digi-Key; Supplier Part Number 1: 296-1862-5-ND; Supplier 2: Farnell; Supplier Part Number 2: 8454493; Supplier 3: Newark; Supplier Part Number 3: 52F2731; Supplier 4: Mouser; Supplier Part Number 4: 595-TLC5620CN; Eco-Plan: Pb-Free (RoHS); Resolution(Bits): 8; Mounting Technology: Through Hole; Code_JEDEC: MS-001; ComponentLink1Description: Manufacturer URL; ComponentLink1URL: http://www.ti.com/; ComponentLink2Description: Datasheet; ComponentLink2URL: http://www.ti.com/general/docs/lit/getliterature.tsp?genericPartNumber=TLC5620&fileType=pdf; ComponentLink3Description: Package Specification; ComponentLink3URL: http://www.ti.com/lit/ml/mpdi002c/mpdi002c.pdf
footprint TI-N14 (DIP, 14-Leads, Body 19.305x6.35mm, Pitch 2.54mm)
pins: 1 GND (power) "Ground return and reference", 2 REFA (in) "Reference voltage input to DAC A. This voltage defines the output analog range.", 3 REFB (in) "Reference voltage input to DAC B. This voltage defines the output analog range.", 4 REFC (in) "Reference voltage input to DAC C. This voltage defines the output analog range.", 5 REFD (in) "Reference voltage input to DAC D. This voltage defines the output analog range.", 6 DATA (in) "Serial interface digital data input. The digital code for the DAC is clocked into the serial interface register serially. Each data bit is clocked into the register on the falling edge of the clock signal.", 7 CLK (in) "Serial interface clock. The input digital data is shifted into the serial interface register on the falling edge of the clock applied to the CLK terminal.", 8 LOAD (in) "Serial interface load control. When the LDAC terminal is low, the falling edge of the LOAD signal latches the digital data into the output latch and immediately produces the analog voltage at the DAC output terminal.", 9 DACD (out) "DAC D analog output", 10 DACC (out) "DAC C analog output", 11 DACB (out) "DAC B analog output", 12 DACA (out) "DAC A analog output", 13 LDAC (in) "Load DAC. When this signal is high, no DAC output updates occur when the input digital data is read into the serial interface. The DAC outputs are only updated when LDAC is taken from high to low.", 14 VDD (power) "Positive supply voltage"

## TLC5620CNE4
designator U?
8-Bit, 10 us Quad DAC, Serial Input, Programmable for 1 x or 2 x Output, Simultaneous Update, Low Power, 0 to 70 degC, 14-pin DIP (N14), Pb-Free (RoHS); Manufacturer: Texas Instruments; PartNumber: TLC5620CNE4; DAC Channels: 4; DNL(Max)(+/-LSB): 0.9; INL(Max)(+/-LSB): 1; Interface: Serial SPI; Power Consumption(Typ)(mW): 8; Settling Time(us): 10; SubFamily: Precision DAC (=<10MSPS); DatasheetVersion: SLAS081E; PackageVersion: 4040049/E, 12/2002; PackageReference: N14; PackageDescription: 14-Pin Plastic In-Line, Body 19.305 x 6.35 mm, Pitch 2.54 mm; Supplier 1: Digi-Key; Supplier Part Number 1: TLC5620CNE4-ND; Supplier 2: Mouser; Supplier Part Number 2: 595-TLC5620CNE4; Eco-Plan: Pb-Free (RoHS); Resolution(Bits): 8; Mounting Technology: Through Hole; Code_JEDEC: MS-001; ComponentLink1Description: Manufacturer URL; ComponentLink1URL: http://www.ti.com/; ComponentLink2Description: Datasheet; ComponentLink2URL: http://www.ti.com/general/docs/lit/getliterature.tsp?genericPartNumber=TLC5620&fileType=pdf; ComponentLink3Description: Package Specification; ComponentLink3URL: http://www.ti.com/lit/ml/mpdi002c/mpdi002c.pdf
footprint TI-N14 (DIP, 14-Leads, Body 19.305x6.35mm, Pitch 2.54mm)
pins: 1 GND (power) "Ground return and reference", 2 REFA (in) "Reference voltage input to DAC A. This voltage defines the output analog range.", 3 REFB (in) "Reference voltage input to DAC B. This voltage defines the output analog range.", 4 REFC (in) "Reference voltage input to DAC C. This voltage defines the output analog range.", 5 REFD (in) "Reference voltage input to DAC D. This voltage defines the output analog range.", 6 DATA (in) "Serial interface digital data input. The digital code for the DAC is clocked into the serial interface register serially. Each data bit is clocked into the register on the falling edge of the clock signal.", 7 CLK (in) "Serial interface clock. The input digital data is shifted into the serial interface register on the falling edge of the clock applied to the CLK terminal.", 8 LOAD (in) "Serial interface load control. When the LDAC terminal is low, the falling edge of the LOAD signal latches the digital data into the output latch and immediately produces the analog voltage at the DAC output terminal.", 9 DACD (out) "DAC D analog output", 10 DACC (out) "DAC C analog output", 11 DACB (out) "DAC B analog output", 12 DACA (out) "DAC A analog output", 13 LDAC (in) "Load DAC. When this signal is high, no DAC output updates occur when the input digital data is read into the serial interface. The DAC outputs are only updated when LDAC is taken from high to low.", 14 VDD (power) "Positive supply voltage"

## TLC5620ID
designator U?
8-Bit, 10 us Quad DAC, Serial Input, Programmable for 1 x or 2 x Output, Simultaneous Update, Low Power, -40 to 85 degC, 14-pin SOIC (D14), Green (RoHS & no Sb/Br); Manufacturer: Texas Instruments; PartNumber: TLC5620ID; DAC Channels: 4; DNL(Max)(+/-LSB): 0.9; INL(Max)(+/-LSB): 1; Interface: Serial SPI; Power Consumption(Typ)(mW): 8; Settling Time(us): 10; SubFamily: Precision DAC (=<10MSPS); DatasheetVersion: SLAS081E; PackageVersion: 4040047-5/M, 06/2011; PackageReference: D14; PackageDescription: 14-Pin Plastic Small Outline, Body 8.65 x 3.9 mm, Pitch 1.27 mm; Supplier 1: Digi-Key; Supplier Part Number 1: 296-1339-5-ND; Supplier 2: Farnell; Supplier Part Number 2: 4440006; Supplier 3: Newark; Supplier Part Number 3: 35C2157; Supplier 4: Mouser; Supplier Part Number 4: 595-TLC5620ID; Eco-Plan: Green (RoHS & no Sb/Br); Resolution(Bits): 8; Mounting Technology: Surface Mount; Code_JEDEC: MS-012; ComponentLink1Description: Manufacturer URL; ComponentLink1URL: http://www.ti.com/; ComponentLink2Description: Datasheet; ComponentLink2URL: http://www.ti.com/general/docs/lit/getliterature.tsp?genericPartNumber=TLC5620&fileType=pdf; ComponentLink3Description: Package Specification; ComponentLink3URL: http://www.ti.com/lit/ml/mpds177g/mpds177g.pdf
footprint TI-D14_N (SOIC, 14-Leads, Body 8.65x3.9mm, Pitch 1.27mm, IPC Medium Density)
footprint TI-D14_L (SOIC, 14-Leads, Body 8.65x3.9mm, Pitch 1.27mm, IPC High Density)
footprint TI-D14_M (SOIC, 14-Leads, Body 8.65x3.9mm, Pitch 1.27mm, IPC Low Density)
pins: 1 GND (power) "Ground return and reference", 2 REFA (in) "Reference voltage input to DAC A. This voltage defines the output analog range.", 3 REFB (in) "Reference voltage input to DAC B. This voltage defines the output analog range.", 4 REFC (in) "Reference voltage input to DAC C. This voltage defines the output analog range.", 5 REFD (in) "Reference voltage input to DAC D. This voltage defines the output analog range.", 6 DATA (in) "Serial interface digital data input. The digital code for the DAC is clocked into the serial interface register serially. Each data bit is clocked into the register on the falling edge of the clock signal.", 7 CLK (in) "Serial interface clock. The input digital data is shifted into the serial interface register on the falling edge of the clock applied to the CLK terminal.", 8 LOAD (in) "Serial interface load control. When the LDAC terminal is low, the falling edge of the LOAD signal latches the digital data into the output latch and immediately produces the analog voltage at the DAC output terminal.", 9 DACD (out) "DAC D analog output", 10 DACC (out) "DAC C analog output", 11 DACB (out) "DAC B analog output", 12 DACA (out) "DAC A analog output", 13 LDAC (in) "Load DAC. When this signal is high, no DAC output updates occur when the input digital data is read into the serial interface. The DAC outputs are only updated when LDAC is taken from high to low.", 14 VDD (power) "Positive supply voltage"